# Altium footprint library 15142.PcbLib: 1 footprints
Each footprint in its own frame and in the unit in brackets; x right, y up, seen from the top. Pads: shape width x height; smd on the part's side, far side on the other; paste and mask are expansions set on the pad; w line width, h text height; cw(c..) or ccw(c..) is an arc to the next point about the centre after c.
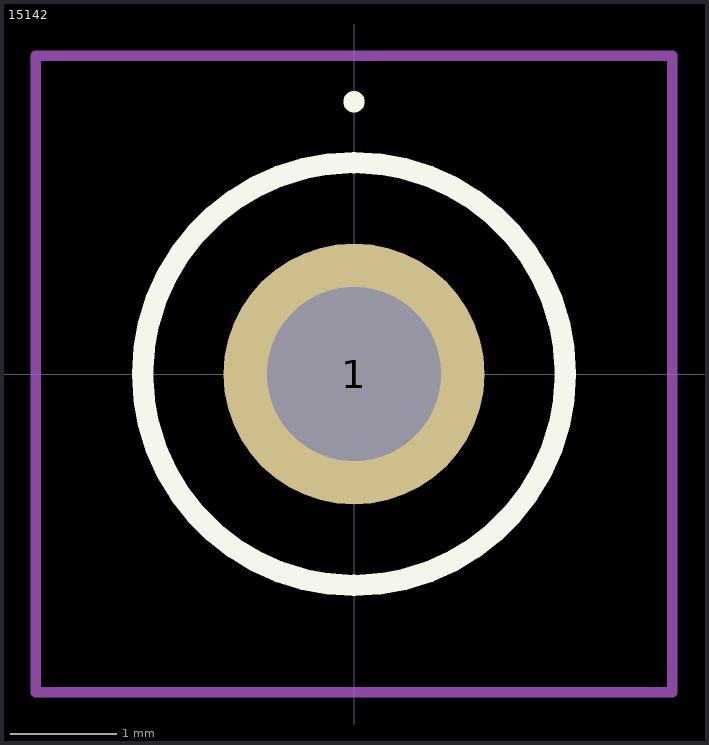
[diagram p0: the footprint, top view; thin cyan lines are the x and y axes]

## 15142 [mm]
pads (1):
  round 2.445 hole 1.63: 1(0,0)
Top Overlay:
  lines w0.1: 0,2.5 0,2.5 ; 0,2.5 ccw(c0,2.55) 0,2.6 ; 0,2.5 cw(c0,2.55) 0,2.6 ; 0,2.6 0,2.6
  lines w0.2: -1.98,0 -1.98,0 ; -1.98,0 ccw(c0,0) 1.98,0 ; -1.98,0 cw(c0,0) 1.98,0 ; 1.98,0 1.98,0
Mechanical 15:
  lines w0.1: -1.98,0 -1.98,0 ; -1.98,0 ccw(c0,0) 1.98,0 ; -1.98,0 cw(c0,0) 1.98,0 ; 1.98,0 1.98,0
Mechanical 20:
  lines w0.1: -2.98,-2.98 2.98,-2.98 2.98,2.98 -2.98,2.98 -2.98,-2.98